# EAGLE library part 6DOF-DIGITAL-TESTER-DEV (library Testing)
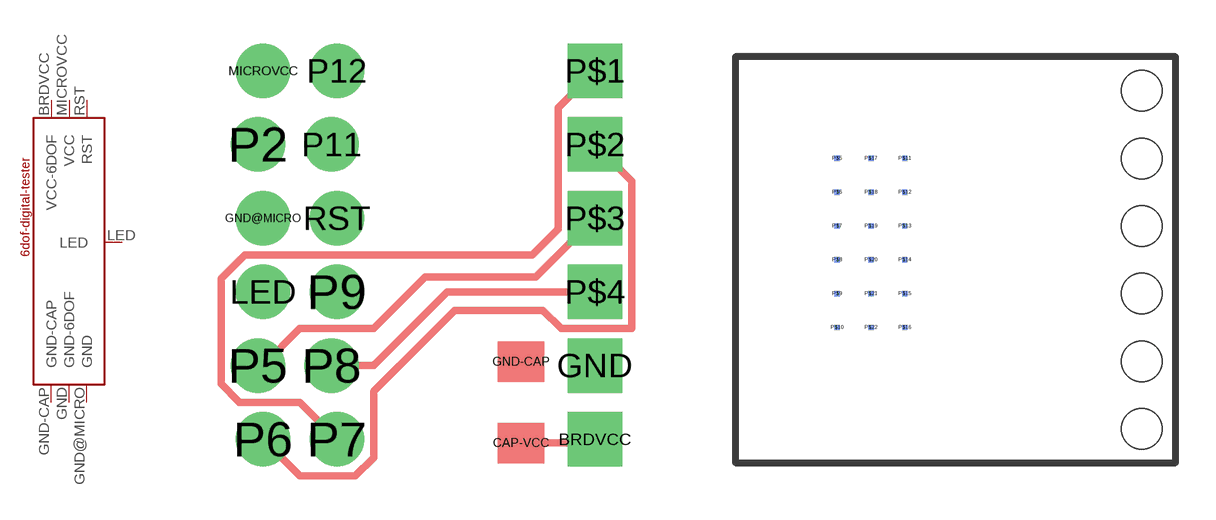
[diagram p0: symbol with the pads of 6DOF-DIGITAL-TESTER; footprints 6DOF-DIGITAL-TESTER, 6DOF-DIGITAL-TESTER-PM]

Designator prefix -

## 6DOF-DIGITAL-TESTER-DEV  [6DOF-DIGITAL-TESTER]
BRDVCC  VCC-6DOF
GND  GND-6DOF
GND-CAP  GND-CAP
GND@MICRO  GND
LED  LED
MICROVCC  VCC
RST  RST

## 6DOF-DIGITAL-TESTER-DEVPM  [6DOF-DIGITAL-TESTER-PM]
P$5  GND-6DOF
P$6  GND-CAP
P$7  GND
P$8  LED
P$9  RST
P$10  VCC
P$11  VCC-6DOF

## Footprint 6DOF-DIGITAL-TESTER (pad centres in mm)
drill 1.118 pad 1.88 square: BRDVCC 15.24,1.27; GND 15.24,3.81; P$1 15.24,13.97; P$2 15.24,11.43; P$3 15.24,8.89; P$4 15.24,6.35
smd 1.6 x 1.4: CAP-VCC 12.7,1.14; GND-CAP 12.7,3.94
drill 1.016 pad 1.88 round: GND@MICRO 3.81,8.89; LED 3.81,6.35; MICROVCC 3.81,13.97; P2 3.632,11.43; P5 3.632,3.81; P6 3.81,1.27; P7 6.35,1.27; P8 6.172,3.81; P9 6.35,6.35; P11 6.172,11.43; P12 6.35,13.97; RST 6.35,8.89

## Footprint 6DOF-DIGITAL-TESTER-PM (pad centres in mm)
smd 0.203 x 0.203 bottom: P$5 3.81,11.43; P$6 3.81,10.16; P$7 3.81,8.89; P$8 3.81,7.62; P$9 3.81,6.35; P$10 3.81,5.08; P$11 6.35,11.43; P$12 6.35,10.16; P$13 6.35,8.89; P$14 6.35,7.62; P$15 6.35,6.35; P$16 6.35,5.08; P$17 5.08,11.43; P$18 5.08,10.16; P$19 5.08,8.89; P$20 5.08,7.62; P$21 5.08,6.35; P$22 5.08,5.08
hole 1.524 at 15.24,13.97
hole 1.524 at 15.24,11.43
hole 1.524 at 15.24,8.89
hole 1.524 at 15.24,6.35
hole 1.524 at 15.24,3.81
hole 1.524 at 15.24,1.27